# Altium footprint library CONN_SD-4030-0001_04_MOL.PcbLib: 1 footprints
Each footprint in its own frame and in the unit in brackets; x right, y up, seen from the top. Pads: shape width x height; smd on the part's side, far side on the other; paste and mask are expansions set on the pad; w line width, h text height; cw(c..) or ccw(c..) is an arc to the next point about the centre after c.
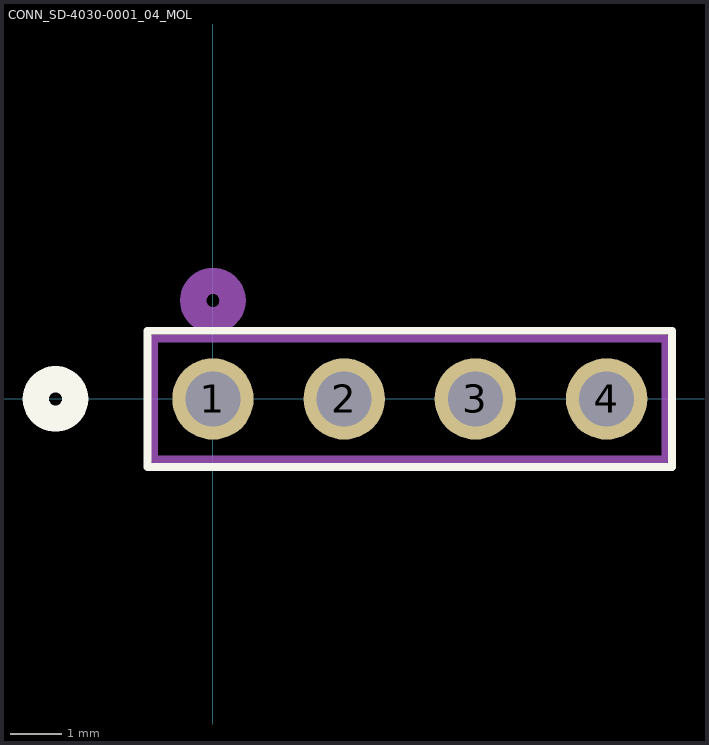
[diagram p0: the footprint, top view; thin cyan lines are the x and y axes]

## CONN_SD-4030-0001_04_MOL [mil]
pads (4):
  round 62 hole 42: 1(0,0) 2(100,0) 3(200,0) 4(300,0)
Top Overlay:
  lines w6: -50,-52 350,-52 350,52 -50,52 -50,-52
  lines w20: -135,0 ccw(c-120,0) -105,0 ccw(c-120,0) -135,0
Bottom Overlay:
  lines w20: -135,0 ccw(c-120,0) -105,0 ccw(c-120,0) -135,0
Assembly Top:
  lines w6: -45,-46 345,-46 345,46 -45,46 -45,-46
  lines w20: -15,75 ccw(c0,75) 15,75 ccw(c0,75) -15,75
3D body "022032041.stp": height 425.5, standoff -134.5, extent -45,-46.5 345,46.5